# Altium schematic symbol library YAOJI.SchLib: 13 symbols
Pins are listed as number, name and electrical type; pins without a type are passive.

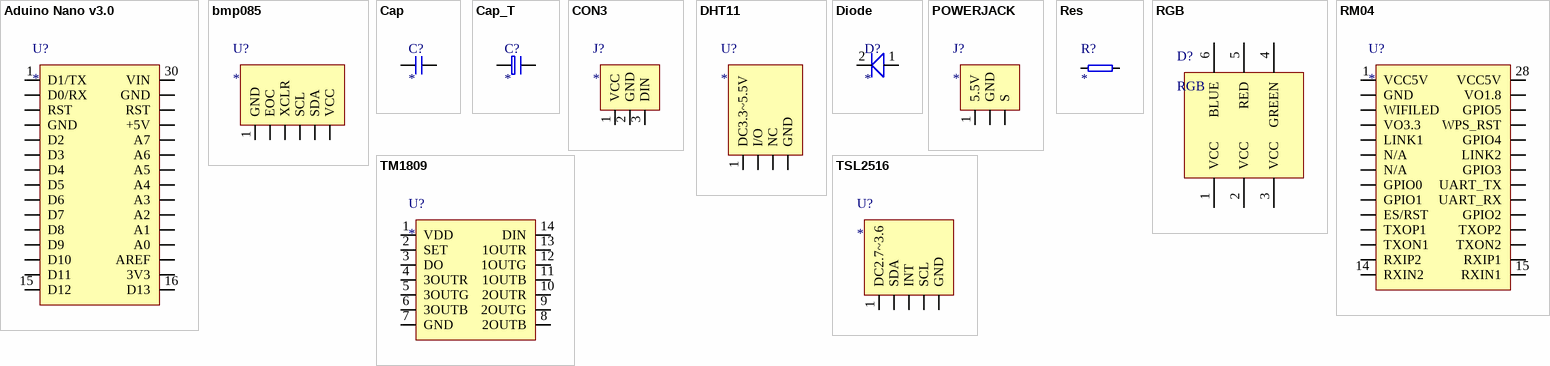
[diagram p0: symbols Aduino Nano v3.0 to TSL2516]

## Aduino Nano v3.0
designator U?
pins: 1 D1/TX, 2 D0/RX, 3 RST, 4 GND, 5 D2, 6 D3, 7 D4, 8 D5, 9 D6, 10 D7, 11 D8, 12 D9, 13 D10, 14 D11, 15 D12, 16 D13, 17 3V3, 18 AREF, 19 A0, 20 A1, 21 A2, 22 A3, 23 A4, 24 A5, 25 A6, 26 A7, 27 +5V, 28 RST, 29 GND, 30 VIN

## bmp085
designator U?
pins: 1 GND, 2 EOC, 3 XCLR, 4 SCL, 5 SDA, 6 VCC

## Cap
designator C?
footprint 0603
pins: 1, 2

## Cap_T
designator C?
footprint 0603
pins: 1, 2

## CON3
designator J?
footprint CON3
pins: 1 VCC, 2 GND, 3 DIN

## DHT11
designator U?
pins: 1 DC3.3~5.5V, 2 I/O, 3 NC, 4 GND

## Diode
designator D?
footprint SMAJ
pins: 1, 2 1

## POWERJACK
designator J?
pins: 1 5.5V, 2 GND, 3 S

## Res
designator R?
footprint 0603
pins: 1, 2

## RGB
designator D?
footprint 5050RGB
pins: 1 VCC, 2 VCC, 3 VCC, 4 GREEN, 5 RED, 6 BLUE

## RM04
designator U?
pins: 1 VCC5V, 2 GND, 3 WIFILED, 4 VO3.3, 5 LINK1, 6 N/A, 7 N/A, 8 GPIO0, 9 GPIO1, 10 ES/RST, 11 TXOP1, 12 TXON1, 13 RXIP2, 14 RXIN2, 15 RXIN1, 16 RXIP1, 17 TXON2, 18 TXOP2, 19 GPIO2, 20 UART_RX, 21 UART_TX, 22 GPIO3, 23 LINK2, 24 GPIO4, 25 WPS_RST, 26 GPIO5, 27 VO1.8, 28 VCC5V

## TM1809
designator U?
footprint SO-14
pins: 1 VDD, 2 SET, 3 DO, 4 3OUTR, 5 3OUTG, 6 3OUTB, 7 GND, 8 2OUTB, 9 2OUTG, 10 2OUTR, 11 1OUTB, 12 1OUTG, 13 1OUTR, 14 DIN

## TSL2516
designator U?
pins: 1 DC2.7~3.6, 2 SDA, 3 INT, 4 SCL, 5 GND